# Altium footprint library PcbLib2021-2022.PcbLib: 46 footprints (part 3 of 3)
Each footprint in its own frame and in the unit in brackets; x right, y up, seen from the top. Pads: shape width x height; smd on the part's side, far side on the other; paste and mask are expansions set on the pad; w line width, h text height; cw(c..) or ccw(c..) is an arc to the next point about the centre after c.
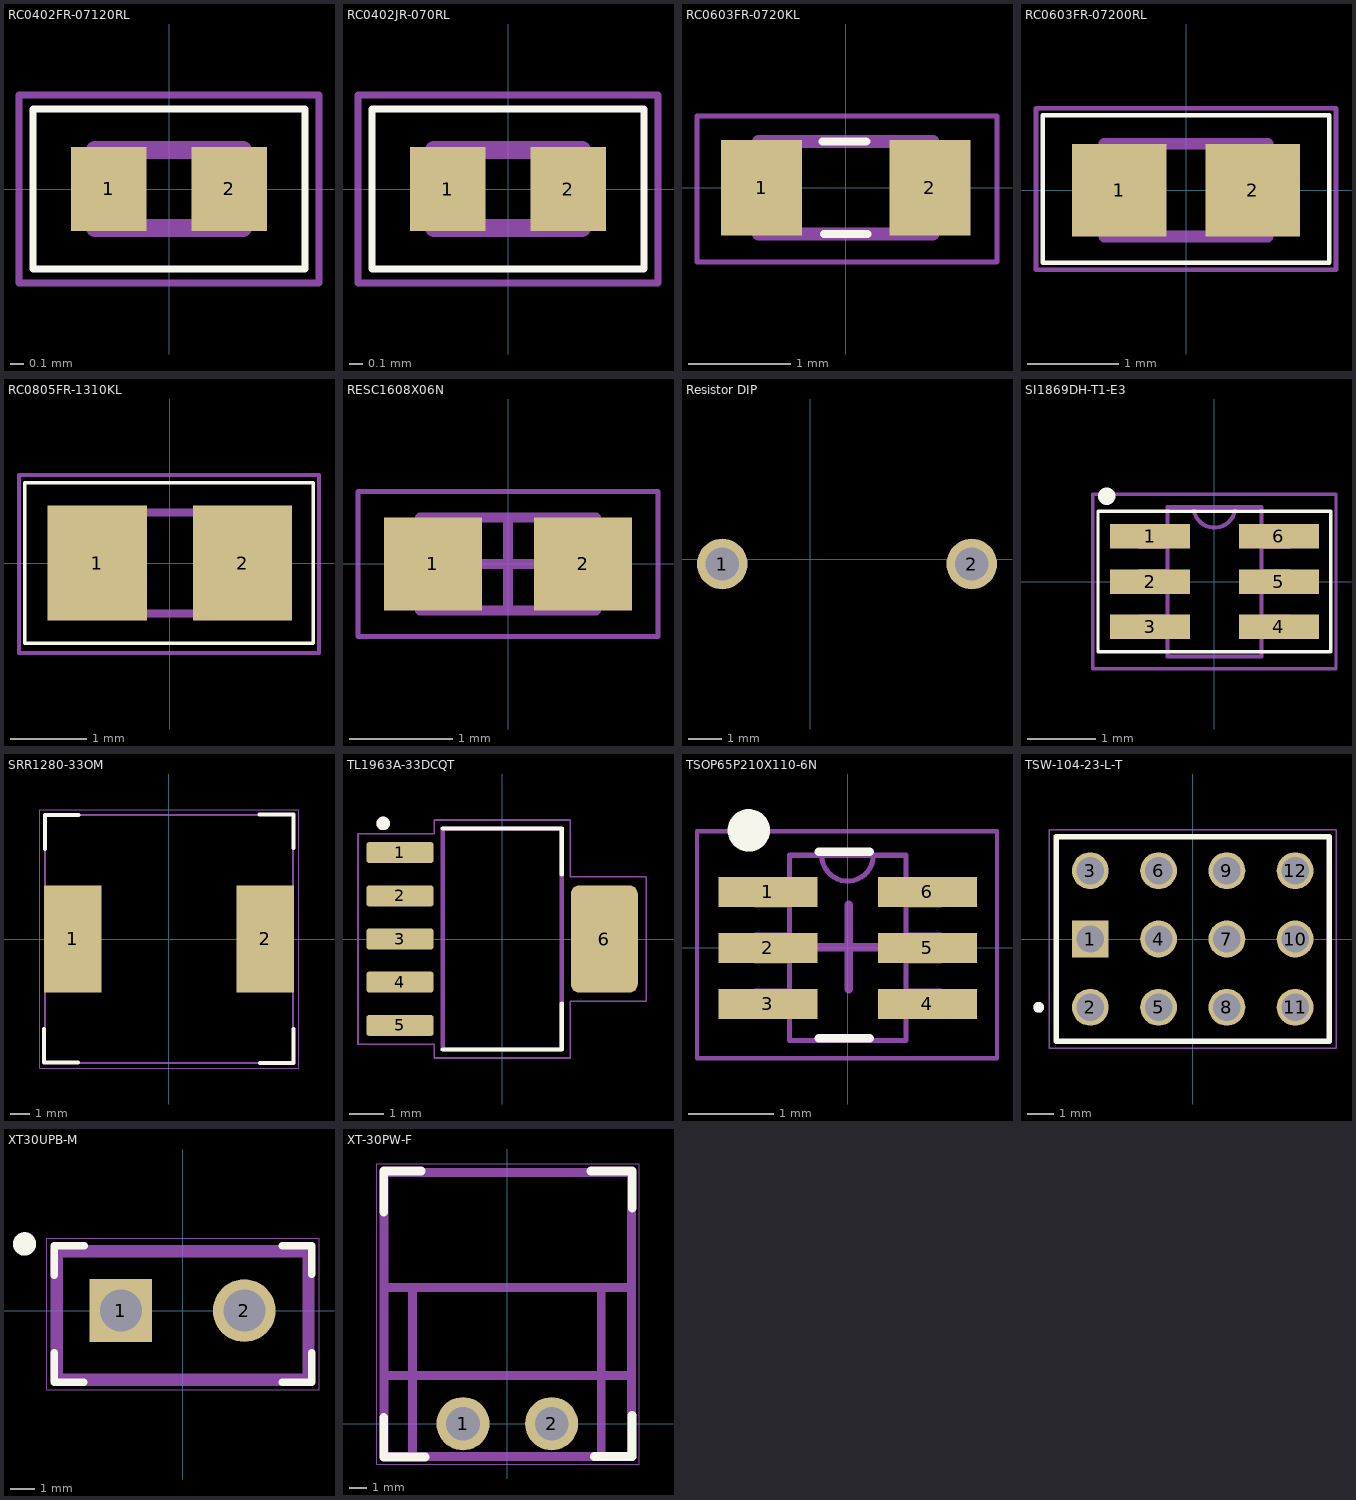
[diagram p2: the footprints below, top view; thin cyan lines are the x and y axes]

## RC0402FR-07120RL [mm]
pads (2):
  rect 0.54x0.6 smd: 1(-0.432,0) 2(0.432,0)
Top Overlay:
  lines w0.05: -0.975,-0.575 0.975,-0.575 0.975,0.575 -0.975,0.575 -0.975,-0.575
M13_3DBody:
  lines w0.127: -0.53,-0.28 -0.53,0.28 0.53,0.28 0.53,-0.28 -0.53,-0.28
M14_TopAssembly:
  text "'.Designator'" at -0.7,-0.337 h1
M15_TopCoutyard:
  lines w0.05: -1.075,-0.675 -1.075,0.675 1.075,0.675 1.075,-0.675 -1.075,-0.675
3D body "RC0402FR-07120RL.STEP": height 0.4, standoff 0, extent -0.5,-0.25 0.5,0.25

## RC0402JR-070RL [mm]
pads (2):
  rect 0.54x0.6 smd: 1(-0.432,0) 2(0.432,0)
Top Overlay:
  lines w0.05: -0.975,-0.575 0.975,-0.575 0.975,0.575 -0.975,0.575 -0.975,-0.575
M13_3DBody:
  lines w0.127: -0.53,-0.28 -0.53,0.28 0.53,0.28 0.53,-0.28 -0.53,-0.28
M14_TopAssembly:
  text "'.Designator'" at -0.7,-0.337 h1
M15_TopCoutyard:
  lines w0.05: -1.075,-0.675 1.075,-0.675 1.075,0.675 -1.075,0.675 -1.075,-0.675
3D body "RC0402JR-072ML.STEP": height 0.4, standoff 0, extent -0.5,-0.25 0.5,0.25

## RC0603FR-0720KL [mm]
pads (2):
  rect 0.79x0.93 smd: 1(-0.82,0) 2(0.82,0)
Top Overlay:
  lines w0.08: -0.225,0.45 0.2,0.45 ; -0.213,-0.45 0.212,-0.45
M13_3DBody:
  lines w0.127: -0.85,-0.45 -0.85,0.45 0.85,0.45 0.85,-0.45 -0.85,-0.45
M14_TopAssembly:
  text "'.Designator'" at -0.745,-0.262 h1
M15_TopCoutyard:
  lines w0.05: -1.45,-0.725 -1.45,0.7 1.475,0.7 1.475,-0.725 -1.45,-0.725
3D body "RC0603FR-071M87L.STEP": height 0.55, standoff 0, extent -0.745,-0.375 0.855,0.425

## RC0603FR-07200RL [mm]
pads (2):
  rect 1.04x1.02 smd: 1(-0.735,0) 2(0.735,0)
Top Overlay:
  lines w0.05: -1.575,-0.8 -1.575,0.825 1.575,0.825 1.575,-0.8 -1.575,-0.8
M13_3DBody:
  lines w0.127: -0.9,-0.51 -0.9,0.51 0.9,0.51 0.9,-0.51 -0.9,-0.51
M14_TopAssembly:
  text "'.Designator'" at -0.975,-0.439 h1.52
M15_TopCoutyard:
  lines w0.05: -1.65,-0.875 -1.65,0.9 1.65,0.9 1.65,-0.875 -1.65,-0.875
3D body "RC0603N_YAG.step": height 0.71, standoff 0, extent -0.785,-0.406 0.815,0.406

## RC0805FR-1310KL [mm]
pads (2):
  rect 1.3x1.5 smd: 1(-0.95,0) 2(0.95,0)
Top Overlay:
  lines w0.05: -1.9,-1.05 -1.9,1.05 1.875,1.05 1.875,-1.05 -1.9,-1.05
M13_3DBody:
  region: 1.106,-0.725 0.356,-0.725 0.356,0.726 1.106,0.726
  region: -0.342,-0.726 -1.095,-0.726 -1.095,0.726 -0.342,0.726
  lines w0.102: -0.381,0.66 0.381,0.66 ; -0.356,-0.66 0.381,-0.66
M14_TopAssembly:
  text "'.Designator'" at -1.52,-0.699 h2
M15_TopCoutyard:
  lines w0.05: -1.975,-1.175 -1.975,1.15 1.95,1.15 1.95,-1.175 -1.975,-1.175
3D body "step_temp.STEP": height 0.6, standoff 0, extent -1,-0.625 1,0.625

## RESC1608X06N [mm] "Chip Resistor, 2-Leads, Body 1,60x0,80mm, IPC Medium Density"
height 0.55
pads (2):
  rect 0.95x0.9 smd: 1(-0.725,0) 2(0.725,0)
M13_3DBody:
  lines w0.1: -0.85,-0.45 0.85,-0.45 0.85,0.45 -0.85,0.45 -0.85,-0.45
M15_TopCoutyard:
  lines w0.05: -1.45,-0.7 1.45,-0.7 1.45,0.7 -1.45,0.7 -1.45,-0.7
  lines w0.1: -0.45,0 0.45,0 ; 0,-0.45 0,0.45
3D body "RESC1608X06N.step": height 0.55, standoff 0, extent -0.85,-0.45 0.85,0.45

## Resistor DIP [mm]
pads (2):
  round 1.524 hole 1: 1(-2.65,-0.15) 2(4.875,-0.15)
3D body "CircuitWorks-RESISTOR 7_62MM DIP.step": height 2, standoff -2, extent -2.875,-1.175 5.225,0.825

## SI1869DH-T1-E3 [mil]
pads (6):
  rect 46x14 smd: 1(-37,26) 2(-37,0) 3(-37,-26) 4(37,-26) 5(37,0) 6(37,26)
Top Overlay:
  lines w1.97: -66.93,-40.35 66.93,-40.35 66.93,40.35 -66.93,40.35 -66.93,-40.35
  lines w10: -62.01,49.11 ccw(c-82.28,50.18) -62.01,49.21
M14_TopAssembly:
  lines w2.36: -27,-31 -43,-31 -43,-20 -27,-20 ; -27,-31 -27,-43 27,-43 27,-31 ; -27,-31 -27,-20 ; -27,-20 -27,-6 ; -27,-6 -27,6 ; -27,-6 -43,-6 -43,6 -27,6 ; -27,6 -27,20 ; -27,20 -43,20 -43,31 -27,31 ; -27,20 -27,31 ; -27,31 -27,43 -12,43 ; -12,43 ccw(c0,43) 12,43 ; -12,43 12,43 ; 12,43 27,43 27,31 ; 27,-31 27,-20 ; 27,-31 43,-31 43,-20 27,-20 ; 27,-20 27,-6 ; 27,-6 43,-6 43,6 27,6 ; 27,-6 27,6 ; 27,6 27,20 ; 27,20 43,20 43,31 27,31 ; 27,20 27,31
  text "'.Designator'" at -35,-8.92 h59.06
M15_TopCoutyard:
  lines w1.97: -69.88,-50.2 -69.88,50.2 69.88,50.2 69.88,-50.2 -69.88,-50.2
3D body "BSS84AKS.STEP": height 43.31, standoff 0, extent -41.34,-39.37 41.34,39.37

## SRR1280-33OM [mm]
pads (2):
  rect 2.9x5.4 smd: 1(-4.85,0) 2(4.85,0)
Top Overlay:
  lines w0.2: -6.3,-4.525 -6.3,-6.225 -4.575,-6.225 ; -6.25,4.525 -6.25,6.25 -4.55,6.25 ; 4.55,6.275 6.275,6.275 6.275,4.575 ; 4.575,-6.25 6.275,-6.25 6.275,-4.525
M14_TopAssembly:
  lines w0.1: -6.25,-6.25 -6.25,6.25 6.25,6.25 6.25,-6.25 -6.25,-6.25
  text "'.Designator'" at -2.625,-1.173 h4
M15_TopCoutyard:
  lines w0.05: -6.5,-6.5 6.525,-6.5 6.525,6.5 -6.5,6.5 -6.5,-6.5
3D body "srr1280-330m.stp": height 7.5, standoff 0, extent -6.2,-6.25 6.3,6.25

## TL1963A-33DCQT [mm]
pads (6):
  rrect25% 1.97x0.62 smd: 1(-3.005,2.54) 2(-3.005,1.27) 3(-3.005,0) 4(-3.005,-1.27) 5(-3.005,-2.54)
  rrect25% 1.97x3.16 smd: 6(3.005,0)
Top Overlay:
  circle w0.2: c-3.5,3.4 r0.1
  lines w0.127: -1.75,-3.25 1.75,-3.25 1.75,-1.9 ; -1.75,3.25 1.75,3.25 1.75,1.9
M13_3DBody:
  circle w0.2: c-3.5,3.4 r0.1
  lines w0.127: -1.75,-3.25 1.75,-3.25 1.75,3.25 -1.75,3.25 -1.75,-3.25
M14_TopAssembly:
  text "'.Designator'" at -2.075,-0.861 h3
M15_TopCoutyard:
  lines w0.05: -4.24,-3.1 -4.24,3.1 -2,3.1 -2,3.5 2,3.5 2,1.83 4.24,1.83 4.24,-1.83 2,-1.83 2,-3.5 -2,-3.5 -2,-3.1 -4.24,-3.1
3D body "TL1963A-33DCQT.STEP": height 1.8, standoff 0, extent -3.585,-3.225 3.475,3.275

## TSOP65P210X110-6N [mil] "TSOP, 6-Leads, Body 2,00x1,25mm, Pitch 0,65mm, IPC Medium Density"
height 43.31
pads (6):
  rect 46x14 smd: 1(-37,26) 2(-37,0) 3(-37,-26) 4(37,-26) 5(37,0) 6(37,26)
Top Overlay:
  circle w9.84: c-45.86,54.54 r4.92
  lines w3.94: -13.38,-41.91 10.24,-41.91 ; -13.38,44.7 10.24,44.7
M14_TopAssembly:
  lines w2.36: -27,-31 -43,-31 -43,-20 -27,-20 ; -27,-31 -27,-20 ; -27,-31 -27,-43 27,-43 27,-31 ; -27,-20 -27,-6 ; -27,-6 -27,6 ; -27,-6 -43,-6 -43,6 -27,6 ; -27,6 -27,20 ; -27,20 -43,20 -43,31 -27,31 ; -27,20 -27,31 ; -27,31 -27,43 -12,43 ; -12,43 ccw(c0,43) 12,43 ; -12,43 12,43 ; 12,43 27,43 27,31 ; 27,-31 27,-20 ; 27,-31 43,-31 43,-20 27,-20 ; 27,-20 27,-6 ; 27,-6 27,6 ; 27,-6 43,-6 43,6 27,6 ; 27,6 27,20 ; 27,20 43,20 43,31 27,31 ; 27,20 27,31
  text "'.Designator'" at -49.21,-25.56 h78.74
M15_TopCoutyard:
  lines w1.97: -69.88,-51.18 69.3,-51.18 69.3,54.13 -69.88,54.13 -69.88,-51.18
  lines w3.94: -19.17,0.43 20.2,0.43 ; 0.51,-19.26 0.51,20.11
3D body "BSS84AKS.STEP": height 43.31, standoff 0, extent -40.94,-38.96 41.74,39.78

## TSW-104-23-L-T [mm] "CONN HEADER VERT 12POS 2.54MM"
pads (12):
  rect 1.37x1.37 hole 1.02: 1(-3.81,0)
  round 1.37 hole 1.02: 2(-3.81,-2.54) 3(-3.81,2.54) 4(-1.27,0) 5(-1.27,-2.54) 6(-1.27,2.54) 7(1.27,0) 8(1.27,-2.54) 9(1.27,2.54) 10(3.81,0) 11(3.81,-2.54) 12(3.81,2.54)
Top Overlay:
  circle w0.2: c-5.73,-2.54 r0.1
  lines w0.2: -5.08,-3.81 5.08,-3.81 5.08,3.81 -5.08,3.81 -5.08,-3.81
M13_3DBody:
  circle w0.2: c-5.73,-2.54 r0.1
  lines w0.1: -5.08,-3.81 5.08,-3.81 5.08,3.81 -5.08,3.81 -5.08,-3.81
M14_TopAssembly:
  text "'.Designator'" at -2.15,-0.911 h3
M15_TopCoutyard:
  lines w0.05: -5.33,-4.06 5.33,-4.06 5.33,4.06 -5.33,4.06 -5.33,-4.06
3D body "TSW-104-08-G-T.stp": height 8.38, standoff -5.08, extent -5.09,-3.82 5.07,3.8

## XT30UPB-M [mm] "CONNECTOR"
pads (2):
  rect 2.54x2.54 hole 1.7: 1(-2.5,0)
  round 2.54 hole 1.7: 2(2.5,0)
Top Overlay:
  circle w0.5: c-6.4,2.7 r0.224
  lines w0.3: -5.2,-1.7 -5.2,-2.9 -4,-2.9 ; -5.2,1.425 -5.2,2.625 -3.975,2.625 ; 4.025,-2.9 5.225,-2.9 5.225,-1.7 ; 4.025,2.625 5.225,2.625 5.225,1.475
Top Solder:
  text "'.Designator'" at -4.2,-2.072 h6
M14_TopAssembly:
  lines w0.5: -5.1,-2.8 -5.1,2.4 5.1,2.4 5.1,-2.8 -5.1,-2.8
M15_TopCoutyard:
  lines w0.05: -5.5,-3.2 -5.5,2.925 5.525,2.925 5.525,-3.2 -5.5,-3.2
3D body "User Library-xt30upb-m.STEP": height 9.4, standoff -2, extent -5.1,-2.605 5.1,2.595

## XT-30PW-F [mm]
pads (2):
  round 3 hole 1.9: 1(-2.5,0) 2(2.5,0)
Top Overlay:
  lines w0.5: -6.975,0.35 -6.975,-1.875 -4.65,-1.875 ; -6.975,11.925 -6.975,14.25 -4.875,14.25 ; 4.725,14.25 7.05,14.25 7.05,12.15 ; 4.9,-1.85 7.025,-1.85 7.025,0.475
Top Solder:
  text "'.Designator'" at -4.3,-1.472 h6
M14_TopAssembly:
  lines w0.5: -6.95,2.725 7,2.725 ; -6.95,7.675 7,7.675 ; -5.35,-1.85 -5.35,7.675 ; 5.3,-1.775 5.3,7.675 ; -6.95,-1.85 7,-1.85 7,14.175 -6.95,14.175 -6.95,-1.85
M15_TopCoutyard:
  lines w0.05: -7.375,14.65 -7.375,-2.275 7.45,-2.275 7.45,14.65 -7.325,14.65
3D body "User Library-XT30- curved.STEP": height 5, standoff -2.1, extent -6.65,-1.031 6.65,13.975